# Altium schematic symbol library NT5CC512M8EQ.SchLib: 1 symbol
Pins are listed as number, name and electrical type; pins without a type are passive.

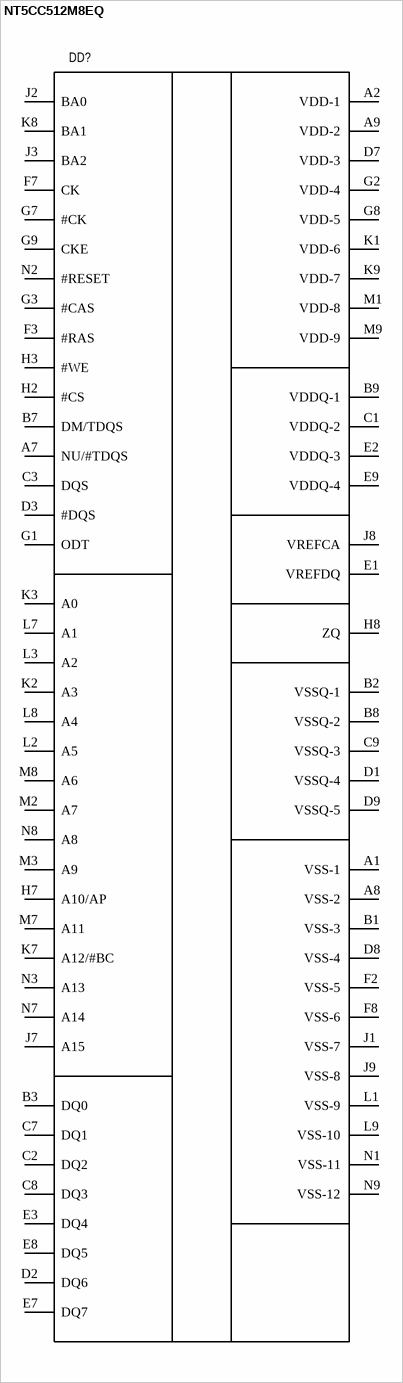
[diagram p0: symbol NT5CC512M8EQ]

## NT5CC512M8EQ
designator DD?
pins: A1 VSS-1, A2 VDD-1, A7 NU/#TDQS, A8 VSS-2, A9 VDD-2, B1 VSS-3, B2 VSSQ-1, B3 DQ0, B7 DM/TDQS, B8 VSSQ-2, B9 VDDQ-1, C1 VDDQ-2, C2 DQ2, C3 DQS, C7 DQ1, C8 DQ3, C9 VSSQ-3, D1 VSSQ-4, D2 DQ6, D3 #DQS, D7 VDD-3, D8 VSS-4, D9 VSSQ-5, E1 VREFDQ, E2 VDDQ-3, E3 DQ4, E7 DQ7, E8 DQ5, E9 VDDQ-4, F2 VSS-5, F3 #RAS, F7 CK, F8 VSS-6, G1 ODT, G2 VDD-4, G3 #CAS, G7 #CK, G8 VDD-5, G9 CKE, H2 #CS, H3 #WE, H7 A10/AP, H8 ZQ, J1 VSS-7, J2 BA0, J3 BA2, J7 A15, J8 VREFCA, J9 VSS-8, K1 VDD-6, K2 A3, K3 A0, K7 A12/#BC, K8 BA1, K9 VDD-7, L1 VSS-9, L2 A5, L3 A2, L7 A1, L8 A4, L9 VSS-10, M1 VDD-8, M2 A7, M3 A9, M7 A11, M8 A6, M9 VDD-9, N1 VSS-11, N2 #RESET, N3 A13, N7 A14, N8 A8, N9 VSS-12